# EAGLE library part MAX1811ESA-T (library maximparts)
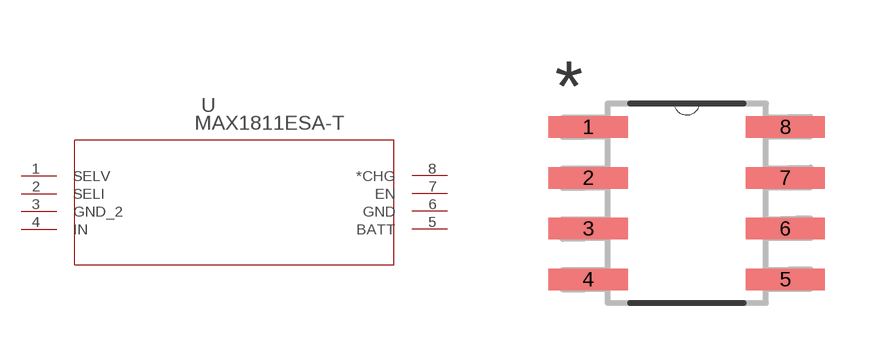
[diagram p2: symbol with the pads of 21-0041B_8; footprint 21-0041B_8]

Designator prefix U

## MAX1811ESA-T (MANUFACTURER_NAME: Maxim; MANUFACTURER_PART_NUMBER: MAX1811ESA-T; VENDOR: Maxim)  [21-0041B_8]
1  SELV
2  SELI
3  GND_2  pwr
4  IN  in
5  BATT
6  GND  pwr
7  EN
8  *CHG

## Footprint 21-0041B_8 (pad centres in mm)
smd 1.981 x 0.533: 1 -2.464,1.905; 2 -2.464,0.635; 3 -2.464,-0.635; 4 -2.464,-1.905; 5 2.464,-1.905; 6 2.464,-0.635; 7 2.464,0.635; 8 2.464,1.905